# Altium schematic symbol library MCU_ST_STM32L5.SchLib: 44 symbols (part 2 of 2)
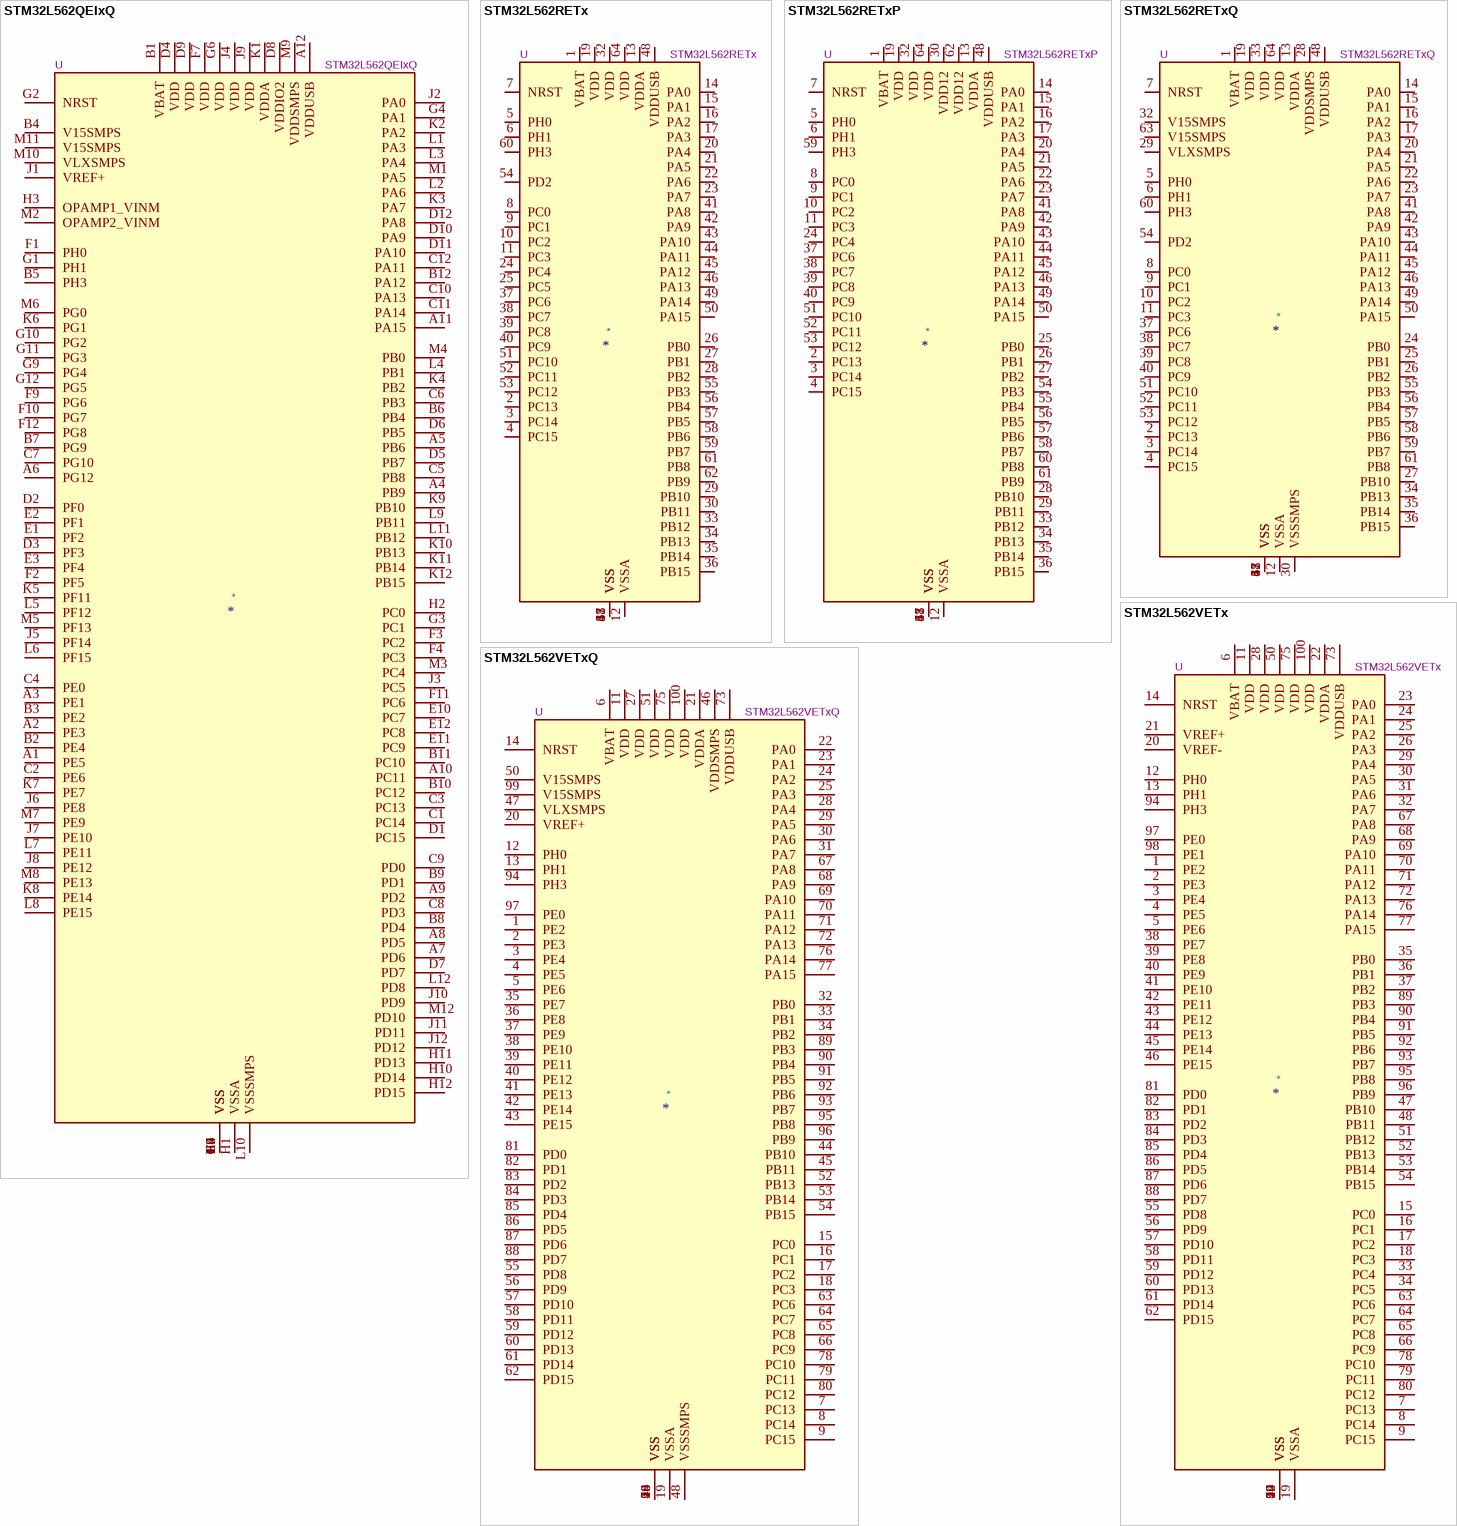
[diagram p9: symbols STM32L562QEIxQ to STM32L562VETxQ]

## STM32L562RETxQ
designator *  value STM32L562RETxQ  Reference: U
STMicroelectronics Arm Cortex-M33 MCU, 512KB flash, 256KB RAM, 110 MHz, 1.71-3.6V, 47 GPIO, LQFP64; ki_keywords: Arm Cortex-M33 STM32L5 STM32L5x2; ki_fp_filters: LQFP*10x10mm*P0.5mm*; Footprint: Package_QFP:LQFP-64_10x10mm_P0.5mm; Datasheet: https://www.st.com/resource/en/datasheet/stm32l562re.pdf; Description_: STMicroelectronics Arm Cortex-M33 MCU, 512KB flash, 256KB RAM, 110 MHz, 1.71-3.6V, 47 GPIO, LQFP64
pins: 1 VBAT, 2 PC13, 3 PC14, 4 PC15, 5 PH0, 6 PH1, 7 NRST, 8 PC0, 9 PC1, 10 PC2, 11 PC3, 12 VSSA, 13 VDDA, 14 PA0, 15 PA1, 16 PA2, 17 PA3, 18 VSS, 19 VDD, 20 PA4, 21 PA5, 22 PA6, 23 PA7, 24 PB0, 25 PB1, 26 PB2, 27 PB10, 28 VDDSMPS, 29 VLXSMPS, 30 VSSSMPS, 31 VSS, 32 V15SMPS, 33 VDD, 34 PB13, 35 PB14, 36 PB15, 37 PC6, 38 PC7, 39 PC8, 40 PC9, 41 PA8, 42 PA9, 43 PA10, 44 PA11, 45 PA12, 46 PA13, 47 VSS, 48 VDDUSB, 49 PA14, 50 PA15, 51 PC10, 52 PC11, 53 PC12, 54 PD2, 55 PB3, 56 PB4, 57 PB5, 58 PB6, 59 PB7, 60 PH3, 61 PB8, 62 VSS, 63 V15SMPS, 64 VDD

## STM32L562VETx
designator *  value STM32L562VETx  Reference: U
STMicroelectronics Arm Cortex-M33 MCU, 512KB flash, 256KB RAM, 110 MHz, 1.71-3.6V, 83 GPIO, LQFP100; ki_keywords: Arm Cortex-M33 STM32L5 STM32L5x2; ki_fp_filters: LQFP*14x14mm*P0.5mm*; Footprint: Package_QFP:LQFP-100_14x14mm_P0.5mm; Datasheet: https://www.st.com/resource/en/datasheet/stm32l562ve.pdf; Description_: STMicroelectronics Arm Cortex-M33 MCU, 512KB flash, 256KB RAM, 110 MHz, 1.71-3.6V, 83 GPIO, LQFP100
pins: 1 PE2, 2 PE3, 3 PE4, 4 PE5, 5 PE6, 6 VBAT, 7 PC13, 8 PC14, 9 PC15, 10 VSS, 11 VDD, 12 PH0, 13 PH1, 14 NRST, 15 PC0, 16 PC1, 17 PC2, 18 PC3, 19 VSSA, 20 VREF-, 21 VREF+, 22 VDDA, 23 PA0, 24 PA1, 25 PA2, 26 PA3, 27 VSS, 28 VDD, 29 PA4, 30 PA5, 31 PA6, 32 PA7, 33 PC4, 34 PC5, 35 PB0, 36 PB1, 37 PB2, 38 PE7, 39 PE8, 40 PE9, 41 PE10, 42 PE11, 43 PE12, 44 PE13, 45 PE14, 46 PE15, 47 PB10, 48 PB11, 49 VSS, 50 VDD, 51 PB12, 52 PB13, 53 PB14, 54 PB15, 55 PD8, 56 PD9, 57 PD10, 58 PD11, 59 PD12, 60 PD13, 61 PD14, 62 PD15, 63 PC6, 64 PC7, 65 PC8, 66 PC9, 67 PA8, 68 PA9, 69 PA10, 70 PA11, 71 PA12, 72 PA13, 73 VDDUSB, 74 VSS, 75 VDD, 76 PA14, 77 PA15, 78 PC10, 79 PC11, 80 PC12, 81 PD0, 82 PD1, 83 PD2, 84 PD3, 85 PD4, 86 PD5, 87 PD6, 88 PD7, 89 PB3, 90 PB4, 91 PB5, 92 PB6, 93 PB7, 94 PH3, 95 PB8, 96 PB9, 97 PE0, 98 PE1, 99 VSS, 100 VDD

## STM32L562VETxQ
designator *  value STM32L562VETxQ  Reference: U
STMicroelectronics Arm Cortex-M33 MCU, 512KB flash, 256KB RAM, 110 MHz, 1.71-3.6V, 79 GPIO, LQFP100; ki_keywords: Arm Cortex-M33 STM32L5 STM32L5x2; ki_fp_filters: LQFP*14x14mm*P0.5mm*; Footprint: Package_QFP:LQFP-100_14x14mm_P0.5mm; Datasheet: https://www.st.com/resource/en/datasheet/stm32l562ve.pdf; Description_: STMicroelectronics Arm Cortex-M33 MCU, 512KB flash, 256KB RAM, 110 MHz, 1.71-3.6V, 79 GPIO, LQFP100
pins: 1 PE2, 2 PE3, 3 PE4, 4 PE5, 5 PE6, 6 VBAT, 7 PC13, 8 PC14, 9 PC15, 10 VSS, 11 VDD, 12 PH0, 13 PH1, 14 NRST, 15 PC0, 16 PC1, 17 PC2, 18 PC3, 19 VSSA, 20 VREF+, 21 VDDA, 22 PA0, 23 PA1, 24 PA2, 25 PA3, 26 VSS, 27 VDD, 28 PA4, 29 PA5, 30 PA6, 31 PA7, 32 PB0, 33 PB1, 34 PB2, 35 PE7, 36 PE8, 37 PE9, 38 PE10, 39 PE11, 40 PE12, 41 PE13, 42 PE14, 43 PE15, 44 PB10, 45 PB11, 46 VDDSMPS, 47 VLXSMPS, 48 VSSSMPS, 49 VSS, 50 V15SMPS, 51 VDD, 52 PB13, 53 PB14, 54 PB15, 55 PD8, 56 PD9, 57 PD10, 58 PD11, 59 PD12, 60 PD13, 61 PD14, 62 PD15, 63 PC6, 64 PC7, 65 PC8, 66 PC9, 67 PA8, 68 PA9, 69 PA10, 70 PA11, 71 PA12, 72 PA13, 73 VDDUSB, 74 VSS, 75 VDD, 76 PA14, 77 PA15, 78 PC10, 79 PC11, 80 PC12, 81 PD0, 82 PD1, 83 PD2, 84 PD3, 85 PD4, 86 PD5, 87 PD6, 88 PD7, 89 PB3, 90 PB4, 91 PB5, 92 PB6, 93 PB7, 94 PH3, 95 PB8, 96 PB9, 97 PE0, 98 VSS, 99 V15SMPS, 100 VDD

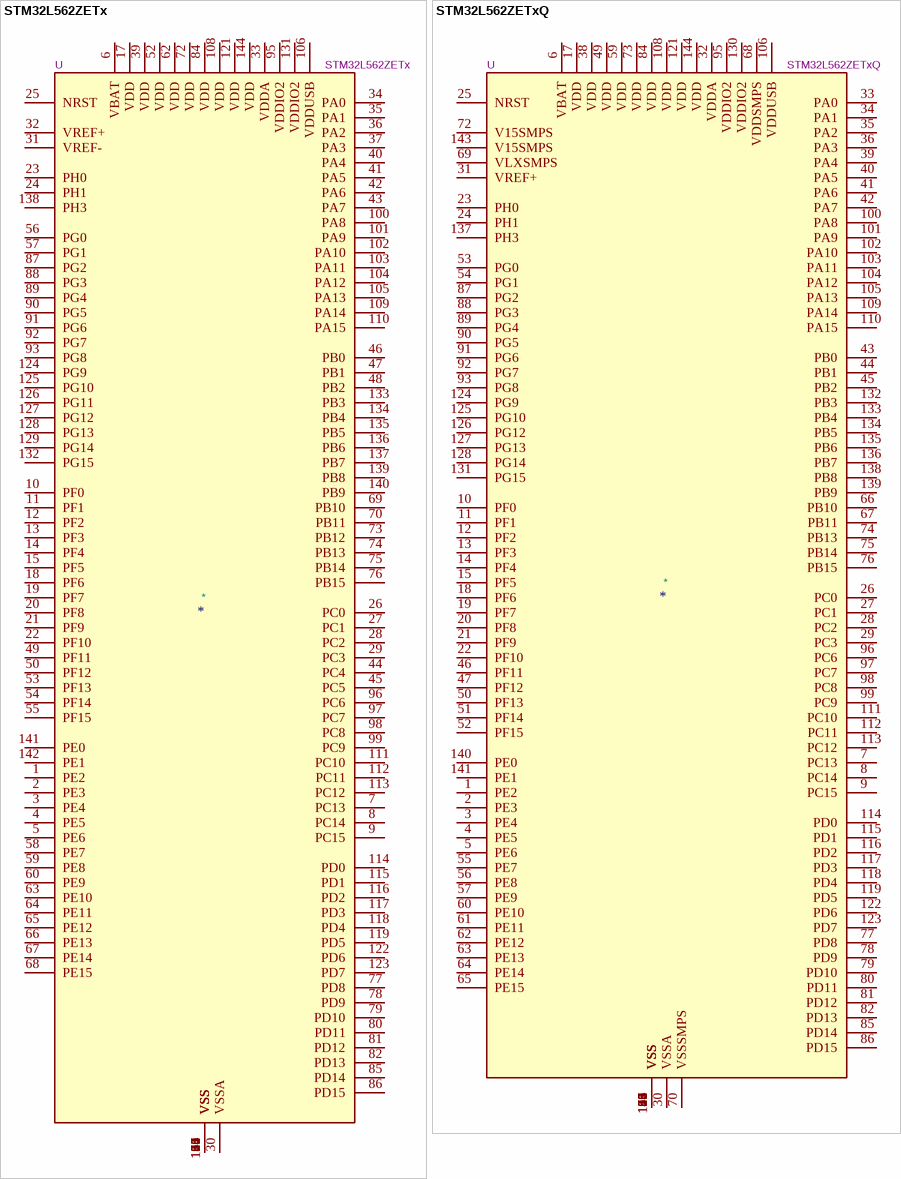
[diagram p8: symbols STM32L562ZETx to STM32L562ZETxQ]

## STM32L562ZETx
designator *  value STM32L562ZETx  Reference: U
STMicroelectronics Arm Cortex-M33 MCU, 512KB flash, 256KB RAM, 110 MHz, 1.71-3.6V, 115 GPIO, LQFP144; ki_keywords: Arm Cortex-M33 STM32L5 STM32L5x2; ki_fp_filters: LQFP*20x20mm*P0.5mm*; Footprint: Package_QFP:LQFP-144_20x20mm_P0.5mm; Datasheet: https://www.st.com/resource/en/datasheet/stm32l562ze.pdf; Description_: STMicroelectronics Arm Cortex-M33 MCU, 512KB flash, 256KB RAM, 110 MHz, 1.71-3.6V, 115 GPIO, LQFP144
pins: 1 PE2, 2 PE3, 3 PE4, 4 PE5, 5 PE6, 6 VBAT, 7 PC13, 8 PC14, 9 PC15, 10 PF0, 11 PF1, 12 PF2, 13 PF3, 14 PF4, 15 PF5, 16 VSS, 17 VDD, 18 PF6, 19 PF7, 20 PF8, 21 PF9, 22 PF10, 23 PH0, 24 PH1, 25 NRST, 26 PC0, 27 PC1, 28 PC2, 29 PC3, 30 VSSA, 31 VREF-, 32 VREF+, 33 VDDA, 34 PA0, 35 PA1, 36 PA2, 37 PA3, 38 VSS, 39 VDD, 40 PA4, 41 PA5, 42 PA6, 43 PA7, 44 PC4, 45 PC5, 46 PB0, 47 PB1, 48 PB2, 49 PF11, 50 PF12, 51 VSS, 52 VDD, 53 PF13, 54 PF14, 55 PF15, 56 PG0, 57 PG1, 58 PE7, 59 PE8, 60 PE9, 61 VSS, 62 VDD, 63 PE10, 64 PE11, 65 PE12, 66 PE13, 67 PE14, 68 PE15, 69 PB10, 70 PB11, 71 VSS, 72 VDD, 73 PB12, 74 PB13, 75 PB14, 76 PB15, 77 PD8, 78 PD9, 79 PD10, 80 PD11, 81 PD12, 82 PD13, 83 VSS, 84 VDD, 85 PD14, 86 PD15, 87 PG2, 88 PG3, 89 PG4, 90 PG5, 91 PG6, 92 PG7, 93 PG8, 94 VSS, 95 VDDIO2, 96 PC6, 97 PC7, 98 PC8, 99 PC9, 100 PA8, 101 PA9, 102 PA10, 103 PA11, 104 PA12, 105 PA13, 106 VDDUSB, 107 VSS, 108 VDD, 109 PA14, 110 PA15, 111 PC10, 112 PC11, 113 PC12, 114 PD0, 115 PD1, 116 PD2, 117 PD3, 118 PD4, 119 PD5, 120 VSS, 121 VDD, 122 PD6, 123 PD7, 124 PG9, 125 PG10, 126 PG11, 127 PG12, 128 PG13, 129 PG14, 130 VSS, 131 VDDIO2, 132 PG15, 133 PB3, 134 PB4, 135 PB5, 136 PB6, 137 PB7, 138 PH3, 139 PB8, 140 PB9, 141 PE0, 142 PE1, 143 VSS, 144 VDD

## STM32L562ZETxQ
designator *  value STM32L562ZETxQ  Reference: U
STMicroelectronics Arm Cortex-M33 MCU, 512KB flash, 256KB RAM, 110 MHz, 1.71-3.6V, 111 GPIO, LQFP144; ki_keywords: Arm Cortex-M33 STM32L5 STM32L5x2; ki_fp_filters: LQFP*20x20mm*P0.5mm*; Footprint: Package_QFP:LQFP-144_20x20mm_P0.5mm; Datasheet: https://www.st.com/resource/en/datasheet/stm32l562ze.pdf; Description_: STMicroelectronics Arm Cortex-M33 MCU, 512KB flash, 256KB RAM, 110 MHz, 1.71-3.6V, 111 GPIO, LQFP144
pins: 1 PE2, 2 PE3, 3 PE4, 4 PE5, 5 PE6, 6 VBAT, 7 PC13, 8 PC14, 9 PC15, 10 PF0, 11 PF1, 12 PF2, 13 PF3, 14 PF4, 15 PF5, 16 VSS, 17 VDD, 18 PF6, 19 PF7, 20 PF8, 21 PF9, 22 PF10, 23 PH0, 24 PH1, 25 NRST, 26 PC0, 27 PC1, 28 PC2, 29 PC3, 30 VSSA, 31 VREF+, 32 VDDA, 33 PA0, 34 PA1, 35 PA2, 36 PA3, 37 VSS, 38 VDD, 39 PA4, 40 PA5, 41 PA6, 42 PA7, 43 PB0, 44 PB1, 45 PB2, 46 PF11, 47 PF12, 48 VSS, 49 VDD, 50 PF13, 51 PF14, 52 PF15, 53 PG0, 54 PG1, 55 PE7, 56 PE8, 57 PE9, 58 VSS, 59 VDD, 60 PE10, 61 PE11, 62 PE12, 63 PE13, 64 PE14, 65 PE15, 66 PB10, 67 PB11, 68 VDDSMPS, 69 VLXSMPS, 70 VSSSMPS, 71 VSS, 72 V15SMPS, 73 VDD, 74 PB13, 75 PB14, 76 PB15, 77 PD8, 78 PD9, 79 PD10, 80 PD11, 81 PD12, 82 PD13, 83 VSS, 84 VDD, 85 PD14, 86 PD15, 87 PG2, 88 PG3, 89 PG4, 90 PG5, 91 PG6, 92 PG7, 93 PG8, 94 VSS, 95 VDDIO2, 96 PC6, 97 PC7, 98 PC8, 99 PC9, 100 PA8, 101 PA9, 102 PA10, 103 PA11, 104 PA12, 105 PA13, 106 VDDUSB, 107 VSS, 108 VDD, 109 PA14, 110 PA15, 111 PC10, 112 PC11, 113 PC12, 114 PD0, 115 PD1, 116 PD2, 117 PD3, 118 PD4, 119 PD5, 120 VSS, 121 VDD, 122 PD6, 123 PD7, 124 PG9, 125 PG10, 126 PG12, 127 PG13, 128 PG14, 129 VSS, 130 VDDIO2, 131 PG15, 132 PB3, 133 PB4, 134 PB5, 135 PB6, 136 PB7, 137 PH3, 138 PB8, 139 PB9, 140 PE0, 141 PE1, 142 VSS, 143 V15SMPS, 144 VDD